# Altium schematic symbol library ic-rf-analog.SchLib: 26 symbols
Pins are listed as number, name and electrical type; pins without a type are passive.

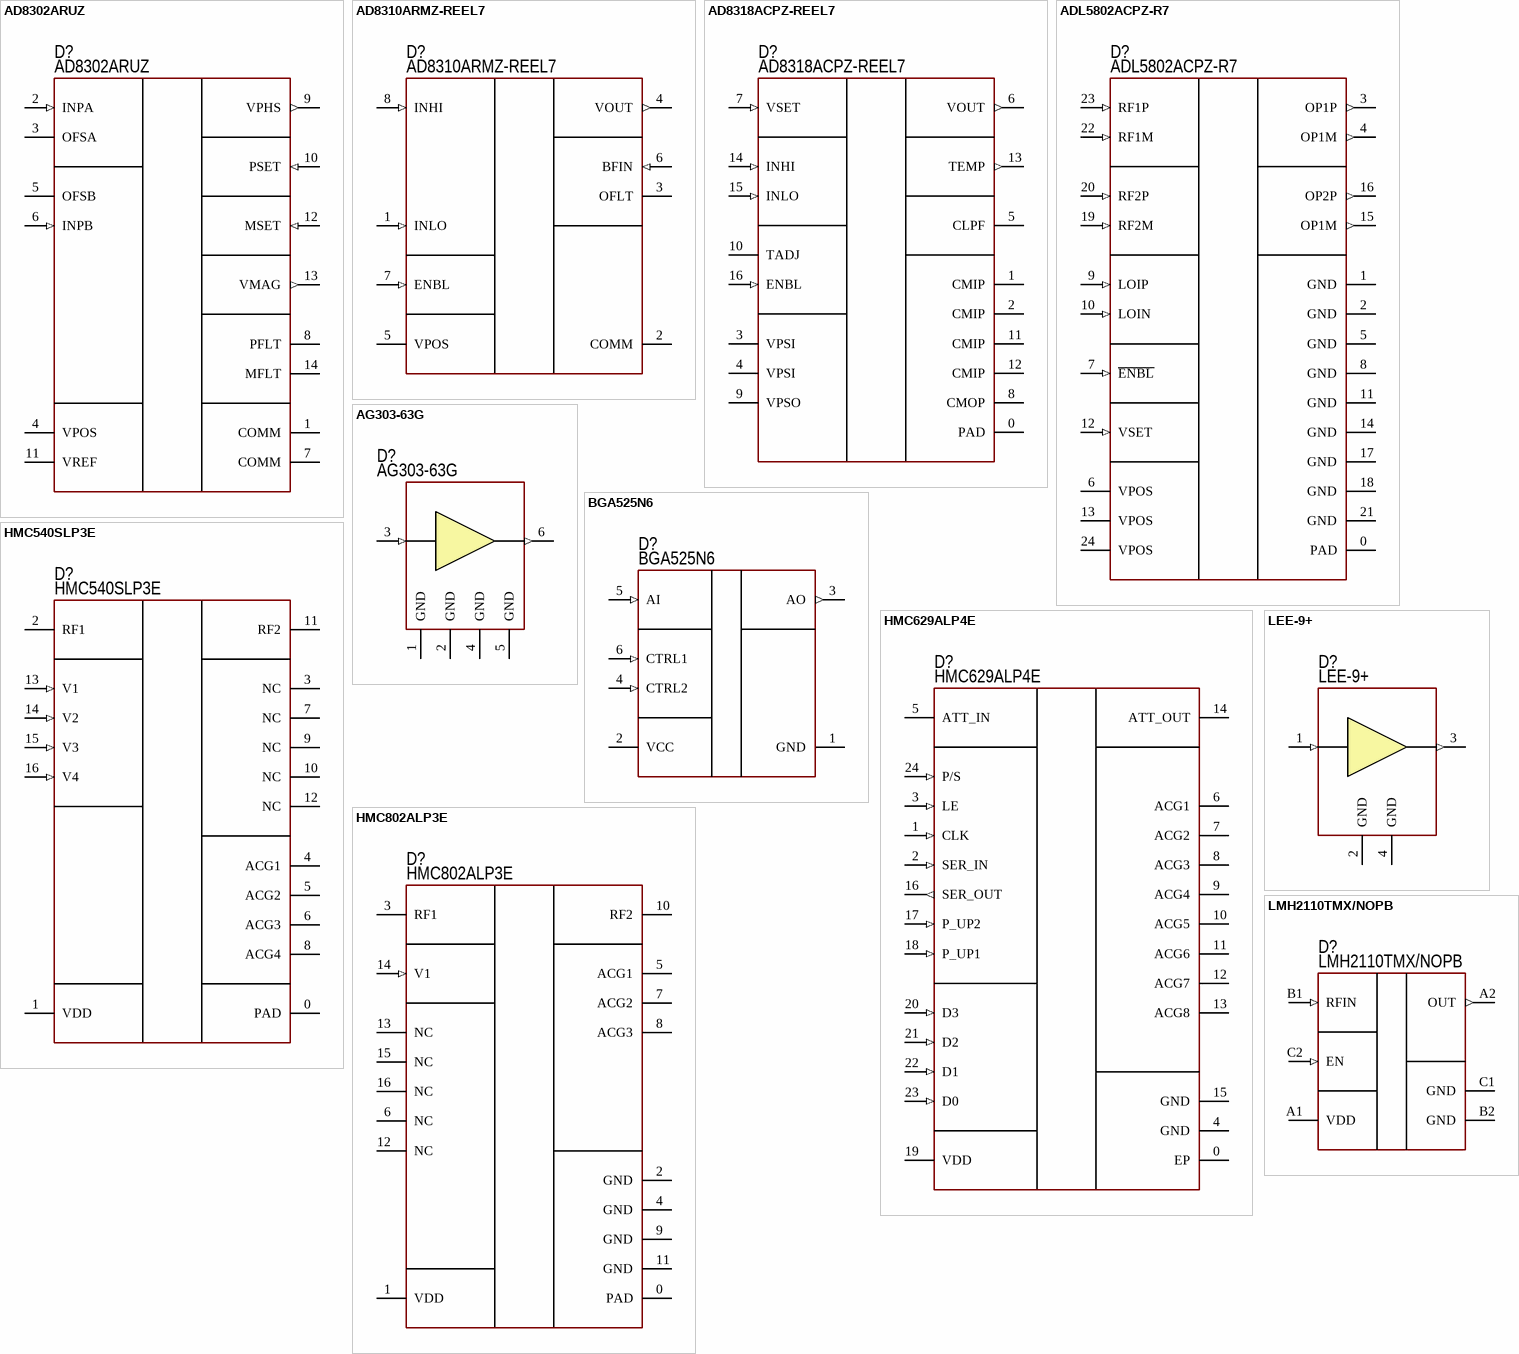
[diagram p0: symbols AD8302ARUZ to LMH2110TMX/NOPB]

## AD8302ARUZ
designator D?  PartNumber: AD8302ARUZ
LF-3GHz Gain Phase Detector; Manufacturer: Analog Devices; ValueManufacturerPartNumber: IC RF Analog, 30mV/dB, 10mV/Degree, 0 Hz...2.7GHz, 2.7...5.5V, -40...+85°C, 14-TSSOP; Supply: 2.7...5.5V; FrequencyRange: 0 Hz...2.7GHz; DynamicRange: 58dB; PhaseMeasurementScaling: 10mV/Degree; GainMeasurementScaling: 30mV/dB; HelpURL: https://www.analog.com/media/en/technical-documentation/data-sheets/ad8302.pdf; Package: 14-TSSOP; ComponentType: IC RF Analog; Temperature: -40...+85°C
footprint 14-TSOP
pins: 1 COMM (power), 2 INPA (in), 3 OFSA, 4 VPOS (power), 5 OFSB, 6 INPB (in), 7 COMM (power), 8 PFLT, 9 VPHS (out), 10 PSET (in), 11 VREF (power), 12 MSET (in), 13 VMAG (out), 14 MFLT

## AD8310ARMZ-REEL7
designator D?  PartNumber: AD8310ARMZ-REEL7
Logarithmic Amplifier; Manufacturer: Analog Devices; ValueManufacturerPartNumber: IC RF Analog, 15ns/15ns (fall/rise), 0...440MHz, 2.7...5.5V, -55...+85°C, 8-MSOP; Supply: 2.7...5.5V; FrequencyRange: 0...440MHz; DynamicRange: 95dB; PulseResponseTime: 15ns/15ns (fall/rise); HelpURL: https://www.mouser.ee/datasheet/2/609/AD8310-1502456.pdf; Package: 8-MSOP; ComponentType: IC RF Analog; Temperature: -55...+85°C
footprint 8-MSOP (pitch 0.65 mm)
pins: 1 INLO (in), 2 COMM, 3 OFLT, 4 VOUT (out), 5 VPOS (power), 6 BFIN (in), 7 ENBL (in), 8 INHI (in)

## AD8318ACPZ-REEL7
designator D?  PartNumber: AD8318ACPZ-REEL7
RF Detector 6GHz Logarithmic Amplifier; Manufacturer: Analog Devices; ValueManufacturerPartNumber: IC RF Analog, 10ns/12ns (fall/rise), 1MHz...8GHz, 4.5...5.5V, -55...+105°C, 16-LFCSP; Supply: 4.5...5.5V; FrequencyRange: 1MHz...8GHz; DynamicRange: 70dB; PulseResponseTime: 10ns/12ns (fall/rise); HelpURL: https://www.mouser.ee/datasheet/2/609/AD8318_EP-1502126.pdf; Package: 16-LFCSP; ComponentType: IC RF Analog; Temperature: -55...+105°C
footprint 16-LFCPS (4x4 mm, pitch 0.65 mm)
pins: 0 PAD (power), 1 CMIP (power), 2 CMIP (power), 3 VPSI (power), 4 VPSI (power), 5 CLPF, 6 VOUT (out), 7 VSET (in), 8 CMOP (power), 9 VPSO (power), 10 TADJ, 11 CMIP (power), 12 CMIP (power), 13 TEMP (out), 14 INHI (in), 15 INLO (in), 16 ENBL (in)

## ADL5802ACPZ-R7
designator D?  PartNumber: ADL5802ACPZ-R7
Double RF Mixer 100MHz to 6GHz; Manufacturer: Analog Devices; Supply: 4.75...5.25V; FrequencyRange: 0.1...6GHz; NoiseFigure: 11dB; OIP3: 28dBm; HelpURL: https://www.mouser.ee/datasheet/2/609/adl5802-3120602.pdf; Package: 24-LFCSP; ComponentType: IC RF Mixer; ValueManufacturerPartNumber: =ComponentType+', '+PulseResponseTime+', '+FrequencyRange+', '+Supply+', '+Temperature+', '+Package; Temperature: -40...+85°C
footprint 24-LFCSP (4X4) (4x4 mm, pitch 0.5 mm, power pad)
pins: 0 PAD (power), 1 GND (power), 2 GND (power), 3 OP1P (out), 4 OP1M (out), 5 GND (power), 6 VPOS (power), 7 ~{ENBL} (in), 8 GND (power), 9 LOIP (in), 10 LOIN (in), 11 GND (power), 12 VSET (in), 13 VPOS (power), 14 GND (power), 15 OP1M (out), 16 OP2P (out), 17 GND (power), 18 GND (power), 19 RF2M (in), 20 RF2P (in), 21 GND (power), 22 RF1M (in), 23 RF1P (in), 24 VPOS (power)

## AG303-63G
designator D?  PartNumber: AG303-63G
Gain Block Amplifier; Manufacturer: Qorvo; Supply: 4.23V; FrequencyRange: 0...6GHz; Gain: 20.5dB; CompressionPoint: 26dBm; HelpURL: https://www.mouser.ee/datasheet/3/1081/1/AG303_63G.pdf; Package: SOT-363; ComponentType: IC RF Analog; ValueManufacturerPartNumber: =ComponentType+', '+PulseResponseTime+', '+FrequencyRange+', '+Supply+', '+Temperature+', '+Package; Temperature: -40...+85°C
footprint SOT363(RF) (pitch 0.65 mm)
pins: 1 GND (power), 2 GND (power), 3 IN (in), 4 GND (power), 5 GND (power), 6 OUT (out)

## BGA525N6
designator D?  PartNumber: BGA525N6
GNSS LNA; Manufacturer: Infineon; ValueManufacturerPartNumber: IC LNA, 1164...1615MHz, 19dB, -40...+105°C, PG-TSNP-6-10; Gain: 19dB; Frequency: 1164...1615MHz; HelpURL: https://www.infineon.com/assets/row/public/documents/24/49/infineon-bga525n6-datasheet-en.pdf; Package: PG-TSNP-6-10; ComponentType: IC LNA; Temperature: -40...+105°C
footprint 6-PG-TSNP-6-10 (pitch 0.4 mm)
pins: 1 GND (power), 2 VCC (power), 3 AO (out), 4 CTRL2 (in), 5 AI (in), 6 CTRL1 (in)

## HMC540SLP3E
designator D?  PartNumber: HMC540SLP3E
Attenuator 4bit 15dB, 1 dB step; Manufacturer: Analog Devices; Supply: 3...5.4V; FrequencyRange: 0.1...8GHz; HelpURL: https://www.mouser.ee/datasheet/2/609/hmc540s-3122631.pdf; Package: 16-QFN; ComponentType: IC RF Attenuator; ValueManufacturerPartNumber: =ComponentType+', '+PulseResponseTime+', '+FrequencyRange+', '+Supply+', '+Temperature+', '+Package; Temperature: -40...+105°C; Attenuation: 15dB; NumberOfBits: 4bit
footprint 16-QFN (3x3) (3x3 mm, pitch 0.5 mm)
pins: 0 PAD (power), 1 VDD (power), 2 RF1, 3 NC, 4 ACG1, 5 ACG2, 6 ACG3, 7 NC, 8 ACG4, 9 NC, 10 NC, 11 RF2, 12 NC, 13 V1 (in), 14 V2 (in), 15 V3 (in), 16 V4 (in)

## HMC629ALP4E
designator D?  PartNumber: HMC629ALP4E
Attenuator 4bit 45dB, 3 dB step; Manufacturer: Analog Devices; Supply: 3...5V; FrequencyRange: 0...10GHz; HelpURL: https://eu.mouser.com/datasheet/2/609/hmc629A-3122871.pdf; Package: 24-QFN; ComponentType: IC RF Attenuator; ValueManufacturerPartNumber: =ComponentType+', '+PulseResponseTime+', '+FrequencyRange+', '+Supply+', '+Temperature+', '+Package; Temperature: -40...+105°C; Attenuation: 45dB; NumberOfBits: 4bit
footprint 24-QFN (4X4) (4x4 mm, pitch 0.5 mm, power pad)
pins: 0 EP (power), 1 CLK (in), 2 SER_IN (in), 3 LE (in), 4 GND (power), 5 ATT_IN, 6 ACG1, 7 ACG2, 8 ACG3, 9 ACG4, 10 ACG5, 11 ACG6, 12 ACG7, 13 ACG8, 14 ATT_OUT, 15 GND (power), 16 SER_OUT (out), 17 P_UP2 (in), 18 P_UP1 (in), 19 VDD (power), 20 D3 (in), 21 D2 (in), 22 D1 (in), 23 D0 (in), 24 P/S (in)

## HMC802ALP3E
designator D?  PartNumber: HMC802ALP3E
Attenuator 1bit 20dB; Manufacturer: Analog Devices; Supply: 3...5.4V; FrequencyRange: 0.1...10GHz; HelpURL: https://www.mouser.ee/datasheet/2/609/hmc540s-3122631.pdf; Package: 16-QFN; ComponentType: IC RF Attenuator; ValueManufacturerPartNumber: =ComponentType+', '+PulseResponseTime+', '+FrequencyRange+', '+Supply+', '+Temperature+', '+Package; Temperature: -40...+85°C; Attenuation: 20dB; NumberOfBits: 1bit
footprint 16-QFN (3x3) (3x3 mm, pitch 0.5 mm)
pins: 0 PAD (power), 1 VDD (power), 2 GND (power), 3 RF1, 4 GND (power), 5 ACG1, 6 NC, 7 ACG2, 8 ACG3, 9 GND (power), 10 RF2, 11 GND (power), 12 NC, 13 NC, 14 V1 (in), 15 NC, 16 NC

## LEE-9+
designator D?  PartNumber: LEE-9+
RF Amplifier; Manufacturer: Mini-Circuits; Supply: 4V; FrequencyRange: 0...8GHz; Gain: 7.7dB; CompressionPoint: 7.9dBm; HelpURL: https://www.mouser.ee/datasheet/2/1030/LEE_9_2b-1700961.pdf; Package: 4-MCLP; ComponentType: IC RF Analog; ValueManufacturerPartNumber: =ComponentType+', '+PulseResponseTime+', '+FrequencyRange+', '+Supply+', '+Temperature+', '+Package; Temperature: -40...+85°C
footprint 4-MCLP (LEE-9+)
pins: 1 IN (in), 2 GND (power), 3 OUT (out), 4 GND (power)

## LMH2110TMX/NOPB
designator D?  PartNumber: LMH2110TMX/NOPB
Logarithmic Power Detector; Manufacturer: Texas Instruments; Dynamic Range: 45dB; Frequency: 0.05...8GHz; HelpURL: https://www.ti.com/lit/gpn/lmh2110; Package: DSBGA-6; ComponentType: Logarithmic Detector; ValueManufacturerPartNumber: =ComponentType+', '+Frequency+', '+Gain+', '+Temperature+', '+Package; Temperature: -40...+85°C
footprint 6-DSBGA (pitch 0.4 mm)
pins: A1 VDD (power), A2 OUT (out), B1 RFIN (in), B2 GND (power), C1 GND (power), C2 EN (in)

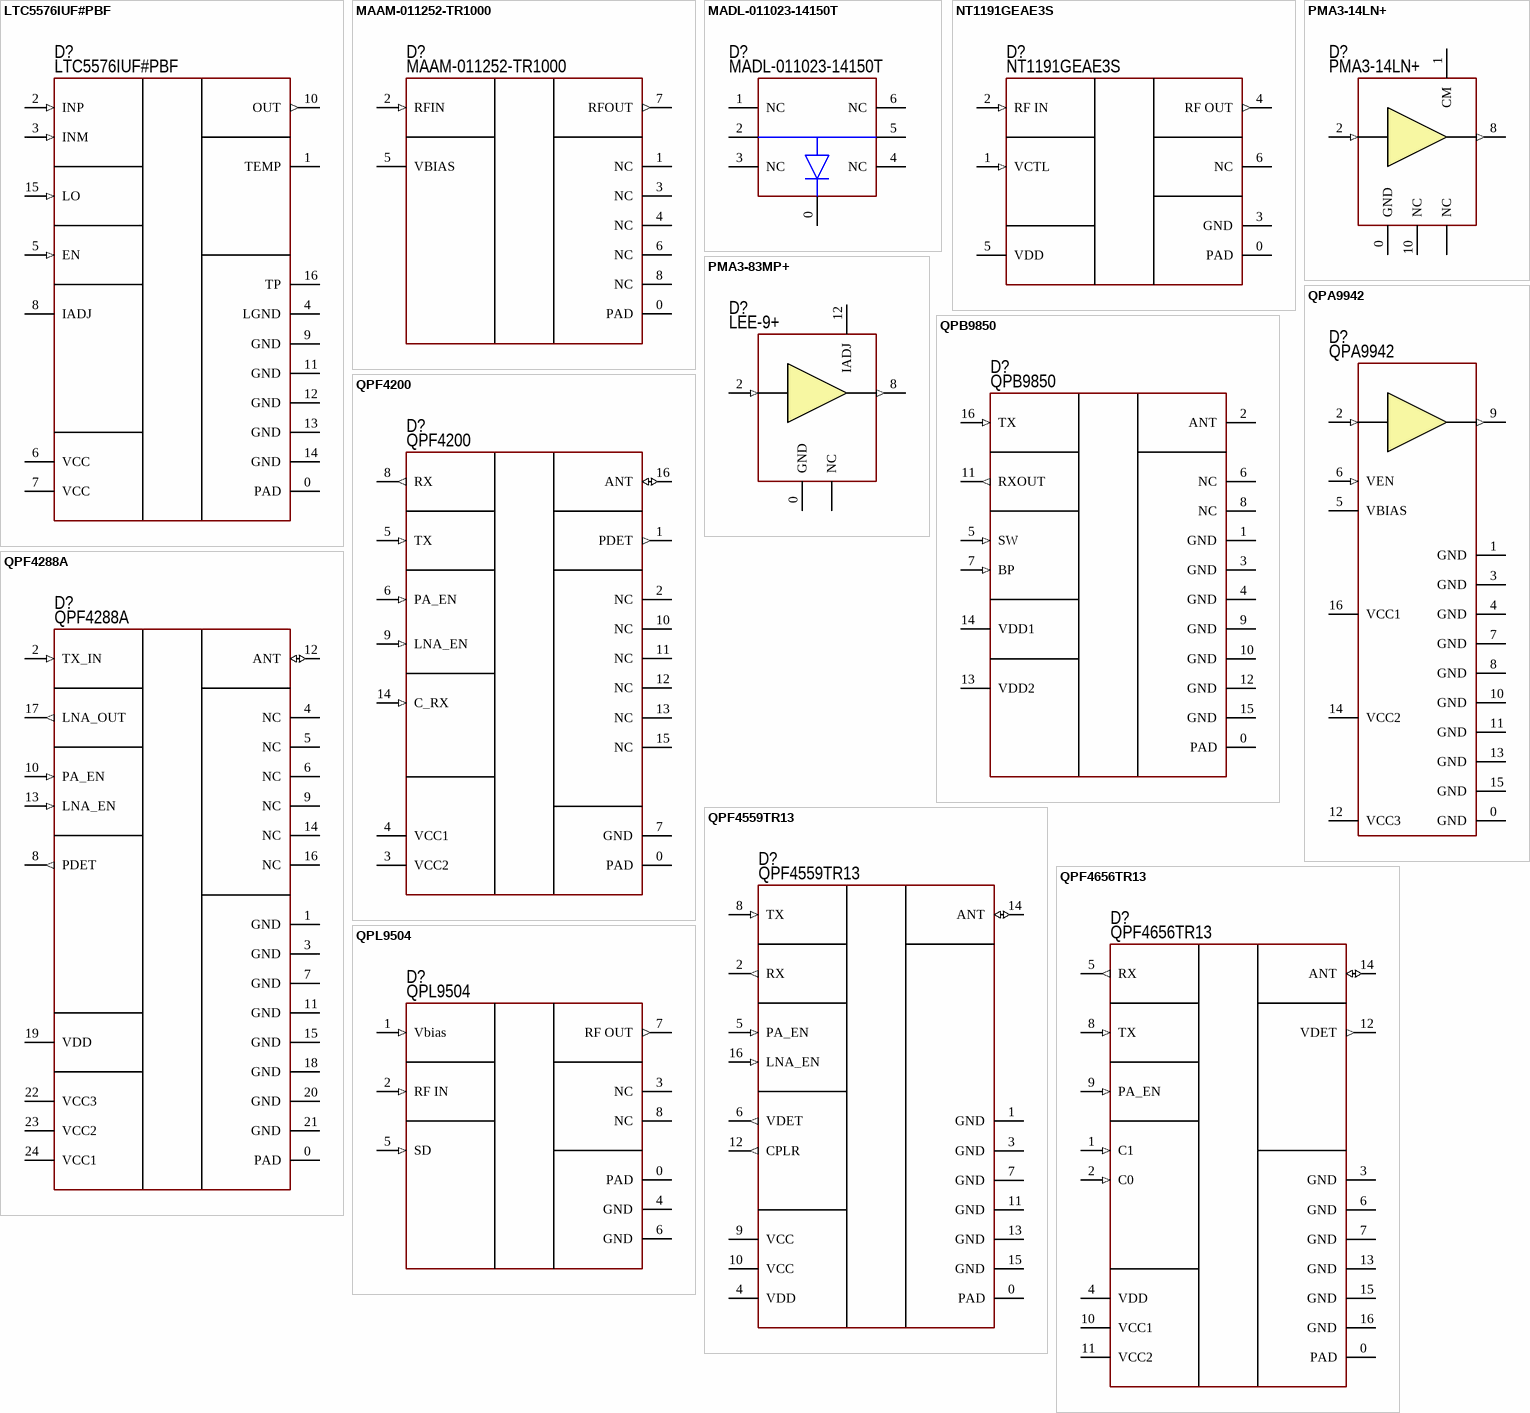
[diagram p1: symbols LTC5576IUF#PBF to QPL9504]

## LTC5576IUF#PBF
designator D?  PartNumber: LTC5576IUF#PBF
RF Mixer 3GHz to 8GHz; Manufacturer: Analog Devices; Supply: 3.1...5.3V; FrequencyRange: 3...8GHz; NoiseFigure: 14.1dB; OIP3: 25dBm; HelpURL: https://www.mouser.ee/datasheet/2/609/5576fa-3125440.pdf; Package: 16-QFN; ComponentType: IC RF Mixer; ValueManufacturerPartNumber: =ComponentType+', '+PulseResponseTime+', '+FrequencyRange+', '+Supply+', '+Temperature+', '+Package; Temperature: -40...+105°C
footprint 16-QFN (4x4) (4x4 mm, pitch 0.65 mm)
pins: 0 PAD (power), 1 TEMP, 2 INP (in), 3 INM (in), 4 LGND (power), 5 EN (in), 6 VCC (power), 7 VCC (power), 8 IADJ, 9 GND (power), 10 OUT (out), 11 GND (power), 12 GND (power), 13 GND (power), 14 GND (power), 15 LO (in), 16 TP

## MAAM-011252-TR1000
designator D?  PartNumber: MAAM-011252-TR1000
LNA 0.03-8GHz; Manufacturer: MACOM; Supply: 3...5V; FrequencyRange: 30...8000MHz; Gain: 19.5dB; CompressionPoint: 12dBm; HelpURL: https://www.mouser.ee/datasheet/2/249/MAAM_011252-3000230.pdf; Package: 8-PDFN; ComponentType: IC RF LNA; ValueManufacturerPartNumber: =ComponentType+', '+PulseResponseTime+', '+FrequencyRange+', '+Supply+', '+Temperature+', '+Package; Temperature: -40...+85°C
footprint 8-PDFN (2x2 mm, pitch 0.5 mm, power pad)
pins: 0 PAD, 1 NC, 2 RFIN (in), 3 NC, 4 NC, 5 VBIAS (power), 6 NC, 7 RFOUT (out), 8 NC

## MADL-011023-14150T
designator D?  PartNumber: MADL-011023-14150T
PIN Diode Limiter; Manufacturer: MACOM; ValueManufacturerPartNumber: IC PIN Diode, 10...12000MHz, <0.2dB, -65...+102°C, ODS-1415; InsertionLoss: <0.2dB; Frequency: 10...12000MHz; HelpURL: https://www.mouser.com/catalog/specsheets/maom-s-a0004987374-1.pdf?_gl=1*1tzgx99*_gcl_aw*R0NMLjE3NjM2MjUzNjYuQ2p3S0NBaUE4dlhJQmhBdEVpd0FmM0ItZzNXZFIwTnotUDFIdEJreUYxaXZQZmRPNHdNS3VNZlhTNVVWeXRkSC1ENUJ3c1dTbDAzQ1NCb0NfZFFRQXZEX0J3RQ..*_gcl_au*MjAxMzk4Mzk1Ny4xNzYzNjI1MzUwLjk5MzEwODUwNi4xNzcxMDc1NTUxLjE3NzEwNzcxMzI.*_ga*MTQ0NjUzMTM0Ny4xNzYzNjI1MzUw*_ga_15W4STQT4T*czE3NzEwNzU1NTAkbzkkZzEkdDE3NzEwNzczMzIkajE4JGwwJGgw; Package: ODS-1415; ComponentType: IC PIN Diode; Temperature: -65...+102°C
footprint 6-TDFN (pitch 0.5 mm)
pins: 0 NC, 1 NC, 2 RFIN, 3 NC, 4 NC, 5 RFOUT, 6 NC

## NT1191GEAE3S
designator D?  PartNumber: NT1191GEAE3S
L1/2/5/6 GNSS LNA 17.5dB; Manufacturer: Nisshinbo Micro Devices; ValueManufacturerPartNumber: IC LNA, 1164...1610MHz, 17.5dB, -40...+105°C, DFN1616 (6); Frequency: 1164...1610MHz; NF: 0.75dB; HelpURL: https://www.mouser.ee/datasheet/2/294/nt1191geae3s_ea-3043287.pdf; Package: DFN1616 (6); ComponentType: IC LNA; Temperature: -40...+105°C; Gain: 17.5dB
footprint 6-DFN1616 (pitch 0.5 mm)
pins: 0 PAD (power), 1 VCTL (in), 2 RF IN (in), 3 GND (power), 4 RF OUT (out), 5 VDD (power), 6 NC

## PMA3-14LN+
designator D?  PartNumber: PMA3-14LN+
RF Amplifier; Manufacturer: Mini-Circuits; Supply: 5.75...6.25V; FrequencyRange: 0...10GHz; Gain: 22.6dB; CompressionPoint: 16.6dBm; HelpURL: https://www.mouser.ee/datasheet/2/1030/PMA3_14LN_2b-2934529.pdf; Package: DQ1225-12; ComponentType: IC RF Analog; ValueManufacturerPartNumber: =ComponentType+', '+PulseResponseTime+', '+FrequencyRange+', '+Supply+', '+Temperature+', '+Package; Temperature: -40...+85°C
footprint 12-DQ1225 (size 3x3 mm, pitch 0.51 mm)
pins: 0 GND (power), 1 CM, 2 IN (in), 3 NC, 4 NC, 5 NC, 6 NC, 7 NC, 8 OUT (out), 9 NC, 10 NC, 11 NC, 12 NC

## PMA3-83MP+
designator D?  PartNumber: LEE-9+
RF Amplifier; Manufacturer: Mini-Circuits; Supply: 7.6...8.4V; FrequencyRange: 0...8GHz; Gain: 7.7dB; CompressionPoint: 7.9dBm; HelpURL: https://www.mouser.ee/datasheet/2/1030/PMA3_83MP_2b-2941862.pdf; Package: DQ1225-12; ComponentType: IC RF Analog; ValueManufacturerPartNumber: =ComponentType+', '+PulseResponseTime+', '+FrequencyRange+', '+Supply+', '+Temperature+', '+Package; Temperature: -40...+85°C
footprint 12-DQ1225 (size 3x3 mm, pitch 0.51 mm)
pins: 0 GND (power), 1 NC, 2 IN (in), 3 NC, 4 NC, 5 NC, 6 NC, 7 NC, 8 OUT (out), 9 NC, 10 NC, 11 NC, 12 IADJ

## QPA9942
designator D?  PartNumber: QPA9942
RF Amplifier; Manufacturer: Qorvo; Supply: 4.75...5.25V; FrequencyRange: 3300...3800MHz; Gain: 31dB; CompressionPoint: 35.3dBm; HelpURL: https://www.qorvo.com/products/p/QPA9942; Package: 5x5mm; ComponentType: IC RF Analog; ValueManufacturerPartNumber: =ComponentType+', '+PulseResponseTime+', '+FrequencyRange+', '+Supply+', '+Temperature+', '+Package; Temperature: -40...+105°C
footprint IC: QPA9942
pins: 0 GND (power), 1 GND (power), 2 IN (in), 3 GND (power), 4 GND (power), 5 VBIAS (power), 6 VEN (in), 7 GND (power), 8 GND (power), 9 OUT (out), 10 GND (power), 11 GND (power), 12 VCC3 (power), 13 GND (power), 14 VCC2 (power), 15 GND (power), 16 VCC1 (power)

## QPB9850
designator D?  PartNumber: QPB9850
RF Front End; Manufacturer: Qorvo; Supply: 5V; FrequencyRange: 2.3...5GHz; NoiseFigure: 1.1dB; RxGain: 34dB; HelpURL: https://www.qorvo.com/products/p/QPB9850; Package: 16-LGA; ComponentType: IC RF FEM; ValueManufacturerPartNumber: =ComponentType+', '+PulseResponseTime+', '+FrequencyRange+', '+Supply+', '+Temperature+', '+Package; Temperature: -40...+110°C
footprint 16-LGA (3x3 QPB9850) (3x3 mm, pitch 0.5 mm)
pins: 0 PAD (power), 1 GND (power), 2 ANT, 3 GND (power), 4 GND (power), 5 SW (in), 6 NC, 7 BP (in), 8 NC, 9 GND (power), 10 GND (power), 11 RXOUT (out), 12 GND (power), 13 VDD2 (power), 14 VDD1 (power), 15 GND (power), 16 TX (in)

## QPF4200
designator D?  PartNumdber: QPF4200
RF Front End Wi-Fi 6 (2.4GHz); Manufacturer: Qorvo; Supply: 5V; FrequencyRange: 2412...2484MHz; NoiseFigure: 2.1dB; TxGain: 33dB; RxGain: 15.5dB; HelpURL: https://wmsc.lcsc.com/wmsc/upload/file/pdf/v2/lcsc/1912181408_Qorvo-QPF4200SR_C470919.pdf; Package: 16-LGA; ComponentType: IC RF FEM; ValueManufacturerPartNumber: =ComponentType+', '+PulseResponseTime+', '+FrequencyRange+', '+Supply+', '+Temperature+', '+Package; Temperature: -40...+85°C
footprint 16-LGA (3x3 Qorvo) (3x3 mm, pitch 0.5 mm)
pins: 0 PAD (power), 1 PDET (out), 2 NC, 3 VCC2 (power), 4 VCC1 (power), 5 TX (in), 6 PA_EN (in), 7 GND (power), 8 RX (out), 9 LNA_EN (in), 10 NC, 11 NC, 12 NC, 13 NC, 14 C_RX (in), 15 NC, 16 ANT (io)

## QPF4288A
designator D?  PartNumdber: QPF4288A
RF Front End Wi-Fi 6 (2.4GHz); Manufacturer: Qorvo; Supply: 5V; FrequencyRange: 2412...2484MHz; NoiseFigure: 1.9dB; TxGain: 14dB; RxGain: 15.5dB; HelpURL: https://eu.mouser.com/datasheet/2/412/QPF4288A_Data_Sheet_Brief-1950769.pdf; Package: 16-LGA; ComponentType: IC RF FEM; ValueManufacturerPartNumber: =ComponentType+', '+PulseResponseTime+', '+FrequencyRange+', '+Supply+', '+Temperature+', '+Package; Temperature: -40...+85°C
footprint 24-LGA (5x3 Qorvo) (5x3 mm, pitch 0.5 mm)
pins: 0 PAD (power), 1 GND (power), 2 TX_IN (in), 3 GND (power), 4 NC, 5 NC, 6 NC, 7 GND (power), 8 PDET (out), 9 NC, 10 PA_EN (in), 11 GND (power), 12 ANT (io), 13 LNA_EN (in), 14 NC, 15 GND (power), 16 NC, 17 LNA_OUT (out), 18 GND (power), 19 VDD (power), 20 GND (power), 21 GND (power), 22 VCC3 (power), 23 VCC2 (power), 24 VCC1 (power)

## QPF4559TR13
designator D?  PartNumdber: QPF4559TR13
RF Front End Wi-Fi 7 (5GHz); Manufacturer: Qorvo; Supply: 5V; FrequencyRange: 2412...2484MHz; NoiseFigure: 1.6dB; TxGain: 32dB; RxGain: 15dB; HelpURL: https://www.mouser.ee/ProductDetail/Qorvo/QPF4559TR13?qs=Imq1NPwxi75VsCgEzxg6ig%3D%3D; Package: 16-LGA; ComponentType: IC RF FEM; ValueManufacturerPartNumber: =ComponentType+', '+PulseResponseTime+', '+FrequencyRange+', '+Supply+', '+Temperature+', '+Package; Temperature: -40...+85°C
footprint 16-LGA (3x3 Qorvo) (3x3 mm, pitch 0.5 mm)
pins: 0 PAD (power), 1 GND (power), 2 RX (out), 3 GND (power), 4 VDD (power), 5 PA_EN (in), 6 VDET (out), 7 GND (power), 8 TX (in), 9 VCC (power), 10 VCC (power), 11 GND (power), 12 CPLR (out), 13 GND (power), 14 ANT (io), 15 GND (power), 16 LNA_EN (in)

## QPF4656TR13
designator D?  PartNumdber: QPF4656TR13
RF Front End Wi-Fi 6E; Manufacturer: Qorvo; Supply: 5V; FrequencyRange: 5.9...7.1GHz; NoiseFigure: 2dB; TxGain: 32dB; RxGain: 14.5dB; HelpURL: https://www.mouser.ee/datasheet/2/412/QPF4656_Data_Sheet_Brief-2943360.pdf; Package: 16-LGA; ComponentType: IC RF FEM; ValueManufacturerPartNumber: =ComponentType+', '+PulseResponseTime+', '+FrequencyRange+', '+Supply+', '+Temperature+', '+Package; Temperature: -40...+85°C
footprint 16-LGA (3x3 Qorvo) (3x3 mm, pitch 0.5 mm)
pins: 0 PAD (power), 1 C1 (in), 2 C0 (in), 3 GND (power), 4 VDD (power), 5 RX (out), 6 GND (power), 7 GND (power), 8 TX (in), 9 PA_EN (in), 10 VCC1 (power), 11 VCC2 (power), 12 VDET (out), 13 GND (power), 14 ANT (io), 15 GND (power), 16 GND (power)

## QPL9504
designator D?  PartNumber: QPL9504
Ultra Low Noise, Flat Gain LNA; Manufacturer: Qorvo; ValueManufacturerPartNumber: IC LNA, 0.6...6 GHz, 21.6dB, -40...+105°C, DFN (8); Gain: 21.6dB; Frequency: 0.6...6 GHz; HelpURL: https://eu.mouser.com/datasheet/2/412/QPL9504_Data_Sheet-2297830.pdf; Package: DFN (8); ComponentType: IC LNA; Temperature: -40...+105°C
footprint 8-DFN (2x2, 0.5 mm, QPL9504) (2x2 mm, pitch 0.5 mm, power pad)
pins: 0 PAD (power), 1 Vbias (in), 2 RF IN (in), 3 NC, 4 GND (power), 5 SD (in), 6 GND (power), 7 RF OUT (out), 8 NC

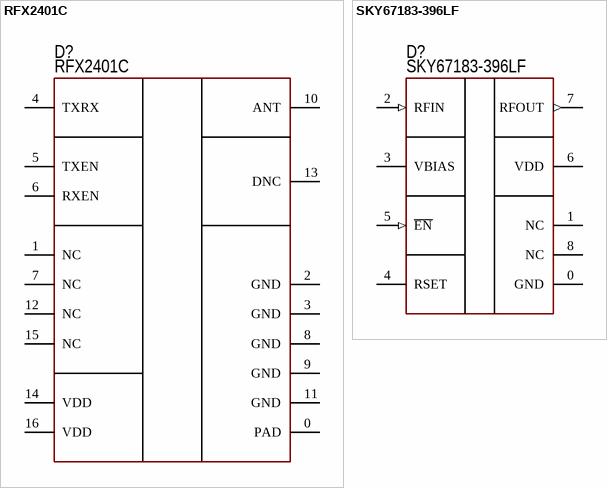
[diagram p2: symbols RFX2401C to SKY67183-396LF]

## RFX2401C
designator D?  PartNumdber: RFX2401C
RF Front End LoRa/Zigbee (2.4GHz); Manufacturer: Skyworks; Supply: 5V; FrequencyRange: 2412...2484MHz; NoiseFigure: 2.1dB; TxGain: 33dB; RxGain: 15.5dB; HelpURL: https://www.skyworksinc.com/-/media/SkyWorks/Documents/Products/2301-2400/RFX2401C_204359C.pdf; Package: 16-LGA; ComponentType: IC RF FEM; ValueManufacturerPartNumber: =ComponentType+', '+PulseResponseTime+', '+FrequencyRange+', '+Supply+', '+Temperature+', '+Package; Temperature: -40...+85°C
footprint 16-QFN (3x3) (3x3 mm, pitch 0.5 mm)
pins: 0 PAD (power), 1 NC, 2 GND, 3 GND, 4 TXRX, 5 TXEN, 6 RXEN, 7 NC, 8 GND, 9 GND, 10 ANT, 11 GND, 12 NC, 13 DNC, 14 VDD, 15 NC, 16 VDD

## SKY67183-396LF
designator D?  PartNumber: SKY67183-396LF
LNA 0.4-6GHz; Manufacturer: Skyworks; ValueManufacturerPartNumber: IC LNA, 0.4...6 GHz, 17.7dB, -40...+115°C, DFN (8); Gain: 17.7dB; Frequency: 0.4...6 GHz; HelpURL: https://www.skyworksinc.com/-/media/409D78A8622A4A0FAADB0D8E555209B6.pdf; Package: DFN (8); ComponentType: IC LNA; Temperature: -40...+115°C
footprint 8-DFN (2x2, 0.5 mm, SKYWORKS) (2x2 mm, pitch 0.5 mm, power pad)
pins: 0 GND (power), 1 NC, 2 RFIN (in), 3 VBIAS (power), 4 RSET, 5 ~{EN} (in), 6 VDD (power), 7 RFOUT (out), 8 NC